# Altium footprint library QFN16L.PcbLib: 1 footprints
Each footprint in its own frame and in the unit in brackets; x right, y up, seen from the top. Pads: shape width x height; smd on the part's side, far side on the other; paste and mask are expansions set on the pad; w line width, h text height; cw(c..) or ccw(c..) is an arc to the next point about the centre after c.
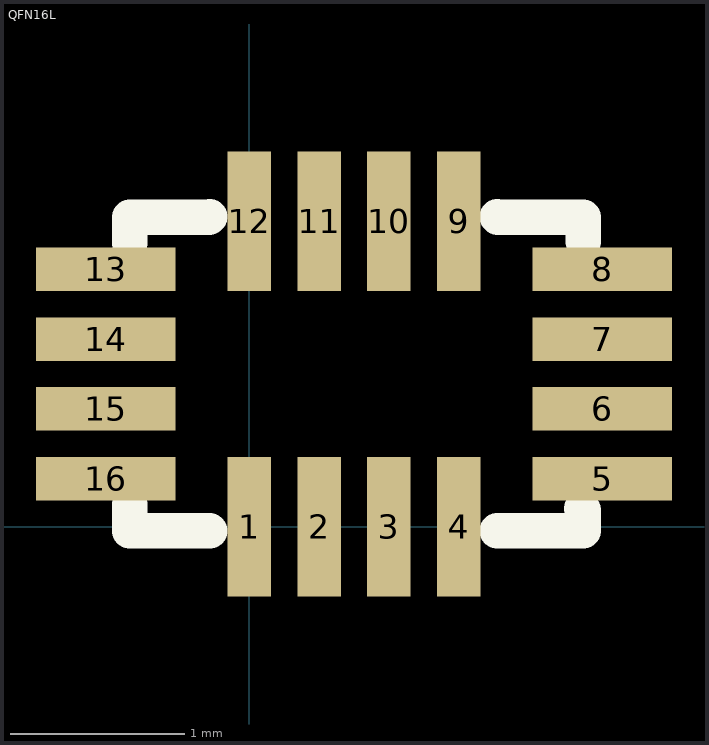
[diagram p0: the footprint, top view; thin cyan lines are the x and y axes]

## QFN16L [mm]
height 0.45
pads (16):
  rect 0.25x0.8 smd: 1(0,0) 2(0.4,0) 3(0.8,0) 4(1.2,0) 9(1.2,1.75) 10(0.8,1.75) 11(0.4,1.75) 12(0,1.75)
  rect 0.8x0.25 smd: 5(2.025,0.275) 6(2.025,0.675) 7(2.025,1.075) 8(2.025,1.475) 13(-0.825,1.475) 14(-0.825,1.075) 15(-0.825,0.675) 16(-0.825,0.275)
TopOverlay:
  lines w0.203: -0.686,0.127 -0.686,-0.025 ; -0.686,1.626 -0.686,1.775 -0.232,1.775 -0.229,1.778 ; 1.422,1.778 1.425,1.775 1.914,1.775 1.914,1.635 ; 1.905,0.102 1.914,0.092 1.914,-0.025 1.423,-0.025 ; -0.686,-0.025 -0.685,-0.025 ; -0.685,-0.025 -0.559,-0.025 -0.229,-0.025 ; -0.229,-0.025 -0.229,-0.025 ; 1.422,-0.025 1.423,-0.025
  text "." at -0.457,-0.483 h0.76